# Altium footprint library ECS.PcbLib: 1 footprints
Each footprint in its own frame and in the unit in brackets; x right, y up, seen from the top. Pads: shape width x height; smd on the part's side, far side on the other; paste and mask are expansions set on the pad; w line width, h text height; cw(c..) or ccw(c..) is an arc to the next point about the centre after c.
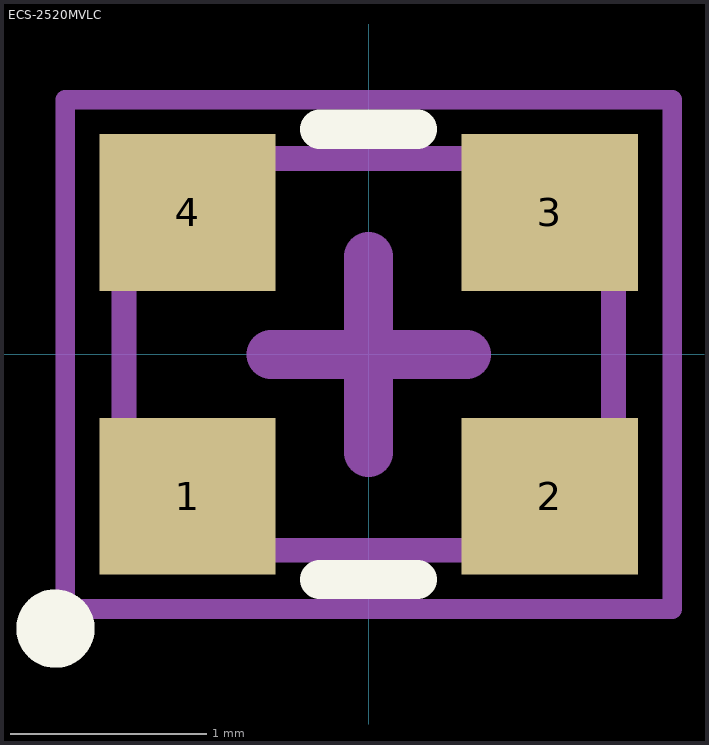
[diagram p0: the footprint, top view; thin cyan lines are the x and y axes]

## ECS-2520MVLC [mm] "ECS-2520MVLC"
pads (4):
  rect 0.9x0.8 smd: 1(-0.925,-0.725) 2(0.925,-0.725) 3(0.925,0.725) 4(-0.925,0.725)
Top Overlay:
  circle w0.2: c-1.6,-1.4 r0.1
  lines w0.2: -0.25,-1.15 0.25,-1.15 ; -0.25,1.15 0.25,1.15
Top 3D Body:
  circle w0.2: c-0.85,-0.6 r0.1
  lines w0.127: -1.25,-1 1.25,-1 1.25,1 -1.25,1 -1.25,-1
Top Assembly:
  lines w0.1: -1.55,-1.3 1.55,-1.3 1.55,1.3 -1.55,1.3 -1.55,-1.3
  lines w0.25: -0.5,0 0.5,0 ; 0,-0.5 0,0.5
3D body "ECS-2520MVLC.STEP": height 0.95, standoff 0.05, extent -1.25,-1 1.25,1